# EAGLE library part TLP350(F) (library TLP350(F))
Toshiba TLP350(F) DC Input Optocoupler, Through Hole, 8-Pin PDIP Source: Datasheet <https://toshiba.semicon-storage.com/info/docget.jsp?did=6217&prodName=TLP350>
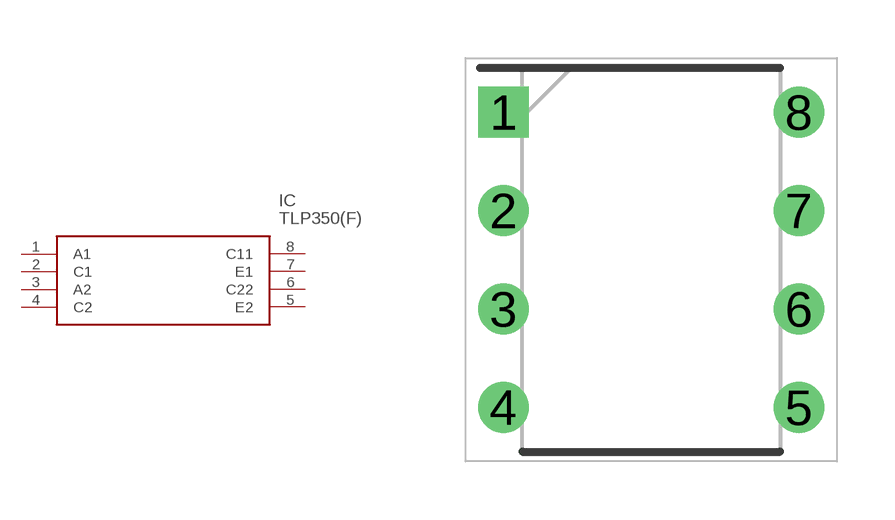
[diagram p0: symbol with the pads of DIP762W60P254L966H485Q8N; footprint DIP762W60P254L966H485Q8N]

Designator prefix IC

## TLP350(F) (DESCRIPTION: Toshiba TLP350(F) DC Input Optocoupler, Through Hole, 8-Pin PDIP; HEIGHT: 4.85mm; MANUFACTURER_NAME: Toshiba; MANUFACTURER_PART_NUMBER: TLP350(F); MOUSER_PART_NUMBER: 757-TLP350(F); MOUSER_PRICE-STOCK: https://www.mouser.com/Search/Refine.aspx?Keyword=757-TLP350%28F%29; RS_PART_NUMBER: 0186022P; RS_PRICE-STOCK: http://uk.rs-online.com/web/p/products/0186022P)  [DIP762W60P254L966H485Q8N]
1  A1
2  C1
3  A2
4  C2
5  E2
6  C22
7  E1
8  C11

## Footprint DIP762W60P254L966H485Q8N (pad centres in mm)
DIP-8_1
drill 0.8 pad 1.2 square: 1 -3.81,3.81
drill 0.8 pad 1.2: 2 -3.81,1.27; 3 -3.81,-1.27; 4 -3.81,-3.81; 5 3.81,-3.81; 6 3.81,-1.27; 7 3.81,1.27; 8 3.81,3.81